# EAGLE library part A4980 (library IntegerLabs)
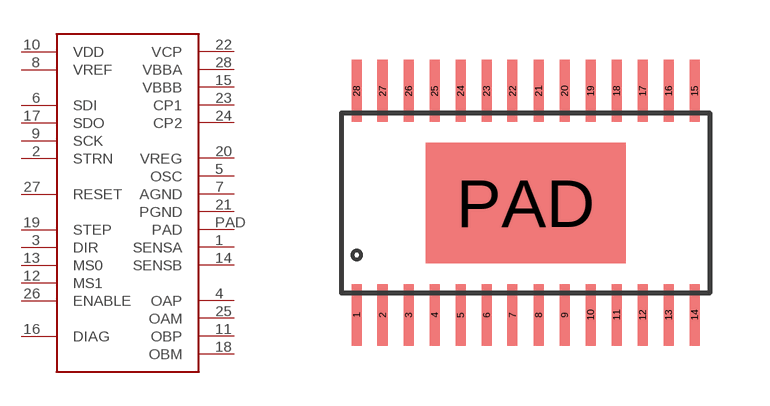
[diagram p7: symbol with the pads of TSSOP-28-PAD; footprint TSSOP-28-PAD]

Designator prefix -

## A4980  [TSSOP-28-PAD]
1  SENSA
2  STRN
3  DIR
4  OAP
5  OSC
6  SDI
7  AGND
8  VREF
9  SCK
10  VDD
11  OBP
12  MS1
13  MS0
14  SENSB
15  VBBB
16  DIAG
17  SDO
18  OBM
19  STEP
20  VREG
21  PGND
22  VCP
23  CP1
24  CP2
25  OAM
26  ENABLE
27  RESET
28  VBBA
PAD  PAD

## Footprint TSSOP-28-PAD (pad centres in mm)
smd 0.25 x 1.55: 1 -4.55,-2.8; 2 -3.9,-2.8; 3 -3.25,-2.8; 4 -2.6,-2.8; 5 -1.95,-2.8; 6 -1.3,-2.8; 7 -0.65,-2.8; 8 0,-2.8; 9 0.65,-2.8; 10 1.3,-2.8; 11 1.95,-2.8; 12 2.6,-2.8; 13 3.25,-2.8; 14 3.9,-2.8; 15 3.9,2.8; 16 3.25,2.8; 17 2.6,2.8; 18 1.95,2.8; 19 1.3,2.8; 20 0.65,2.8; 21 0,2.8; 22 -0.65,2.8; 23 -1.3,2.8; 24 -1.95,2.8; 25 -2.6,2.8; 26 -3.25,2.8; 27 -3.9,2.8; 28 -4.55,2.8
smd 5 x 3: PAD -0.325,0